# Altium integrated library PCB_OFC.IntLib: 20 symbols
Pins are listed as number, name and electrical type; pins without a type are passive.

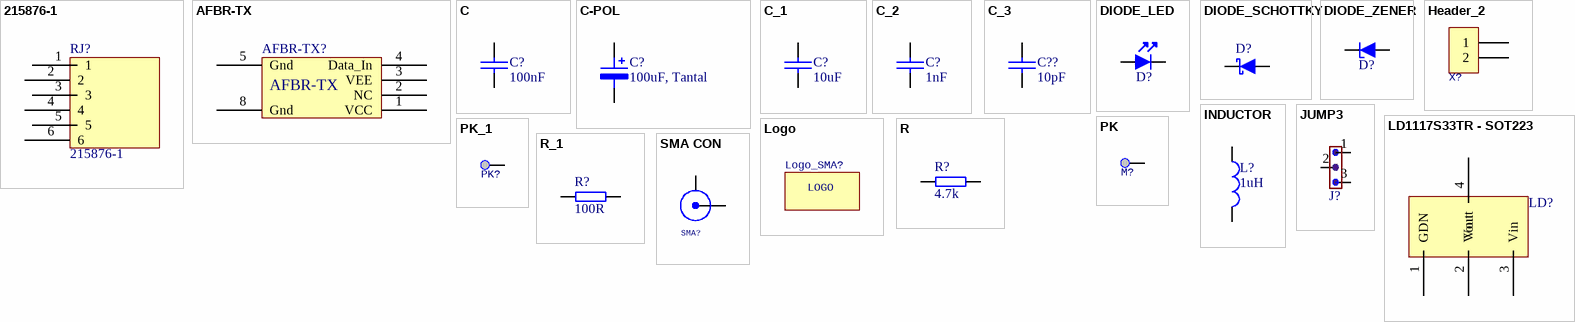
[diagram p0: symbols 215876-1 to SMA CON]

## 215876-1
designator RJ?
gniazdo RJ12
footprint 215876-2 (215876-2?)
pins: 1, 2, 3, 4, 5, 6

## AFBR-TX
designator AFBR-TX?  (value not drawn)
footprint AFBR-TX/RX
pins: 1 VCC, 2 NC, 3 VEE, 4 Data_In, 5 Gnd, 8 Gnd

## C
designator C?, comment 100nF
Capacitor
footprint 1206
footprint 0603
pins: 1, 2

## C-POL
designator C?, comment 100uF, Tantal
Electrolytic Capacitor
footprint 6032-C
pins: 1, 2

## C_1
designator C?, comment 10uF
Capacitor
footprint 1206
pins: 1, 2

## C_2
designator C?, comment 1nF
Capacitor
footprint 0603 (Chip Capacitor; Body 1.6 x 0.8 mm (LxW typ))
pins: 1, 2

## C_3
designator C??, comment 10pF
Capacitor
footprint 0603 (Chip Capacitor; Body 1.6 x 0.8 mm (LxW typ))
pins: 1, 2

## DIODE_LED
designator D?  (value not drawn)
footprint 1206_D
footprint 0603_D (Chip Capacitor; Body 1.6 x 0.8 mm (LxW typ))
pins: A, K

## DIODE_SCHOTTKY
designator D?  (value not drawn)
footprint 1206_D
footprint SOD323
footprint Mini MELF - D
pins: A, K

## DIODE_ZENER
designator D?  (value not drawn)
footprint 1206_D
footprint Mini MELF - D
pins: A, K

## Header_2
designator X?  (value not drawn)
PartNumber: *
footprint TBG2-3.5MM_H
pins: 1, 2

## INDUCTOR
designator L?, comment 1uH
footprint 1210
pins: 1, 2

## JUMP3
designator J?  (value not drawn)
footprint Goldpin_1x3_THT
pins: 1, 2, 3

## LD1117S33TR - SOT223
designator LD?  (value not drawn)
footprint SOT223_Vstab
pins: 1 GDN, 2 Vout, 3 Vin, 4 Vout

## Logo
designator Logo_SMA?  (value not drawn)  (no BOM)
footprint emblem_SMA
text: LOGO

## PK
designator M?, comment M4 screw hole  (value not drawn)  (no BOM)
Punkt; ClassName: Mechanical
footprint PK
footprint PK_M3
footprint PK_M4
pins: 1

## PK_1
designator PK?  (no BOM)
Punkt; ClassName: Mechanical
footprint PK
footprint PK_M3
footprint PK_M4
footprint PK - Sonda
pins: 1

## R
designator R?, comment 4.7k
footprint 1206
footprint 0603
pins: 1, 2

## R_1
designator R?, comment 100R
footprint 1206
footprint 0603
pins: 1, 2

## SMA CON
designator SMA?  (value not drawn)
RCA Connector
footprint SMA CON
pins: 1, 2 (power)